# Altium footprint library ELECTROMECHANICAL_Test.PcbLib: 3 footprints
Each footprint in its own frame and in the unit in brackets; x right, y up, seen from the top. Pads: shape width x height; smd on the part's side, far side on the other; paste and mask are expansions set on the pad; w line width, h text height; cw(c..) or ccw(c..) is an arc to the next point about the centre after c.
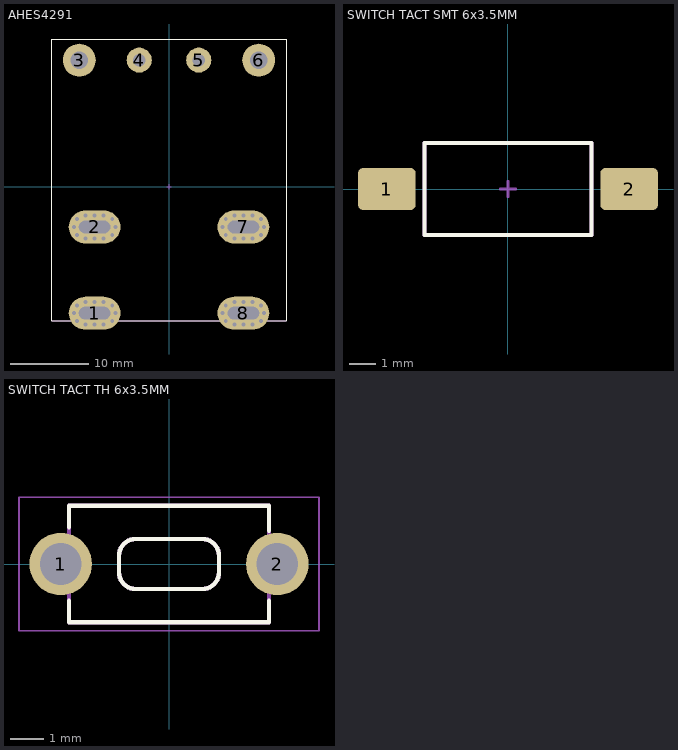
[diagram p0: the footprints below, top view; thin cyan lines are the x and y axes]

## AHES4291 [mm]
pads (8):
  oval 6.6x4.2 hole 1.6 slot 4 at 0 deg mask+0.102: 1(-9.5,-16.15) 7(9.5,-5.15) 8(9.5,-16.15)
  oval 6.6x4.2 hole 1.6 slot 4 at 0 deg: 2(-9.5,-5.15)
  round 4.2 hole 2.2 mask+0.102: 3(-11.45,16.15) 6(11.45,16.15)
  round 3.2 hole 1.6 mask+0.102: 4(-3.8,16.15) 5(3.8,16.15)
via 8.35,-17.6 diameter 1 hole 0.5
via 10.65,-17.6 diameter 1 hole 0.5
via 6.85,-16.15 diameter 1 hole 0.5
via 8.35,-14.7 diameter 1 hole 0.5
via 9.5,-14.7 diameter 1 hole 0.5
via 10.65,-14.7 diameter 1 hole 0.5
via 12.15,-16.15 diameter 1 hole 0.5
via 9.5,-17.6 diameter 1 hole 0.5
via 11.75,-17.15 diameter 1 hole 0.5
via 7.25,-17.15 diameter 1 hole 0.5
via 11.75,-15.15 diameter 1 hole 0.5
via 7.25,-15.15 diameter 1 hole 0.5
via -10.65,-17.6 diameter 1 hole 0.5
via -8.35,-17.6 diameter 1 hole 0.5
via -12.15,-16.15 diameter 1 hole 0.5
via -10.65,-14.7 diameter 1 hole 0.5
via -9.5,-14.7 diameter 1 hole 0.5
via -8.35,-14.7 diameter 1 hole 0.5
via -6.85,-16.15 diameter 1 hole 0.5
via -9.5,-17.6 diameter 1 hole 0.5
via -7.25,-17.15 diameter 1 hole 0.5
via -11.75,-17.15 diameter 1 hole 0.5
via -7.25,-15.15 diameter 1 hole 0.5
via -11.75,-15.15 diameter 1 hole 0.5
via 8.35,-6.6 diameter 1 hole 0.5
via 10.65,-6.6 diameter 1 hole 0.5
via 6.85,-5.15 diameter 1 hole 0.5
via 8.35,-3.7 diameter 1 hole 0.5
via 9.5,-3.7 diameter 1 hole 0.5
via 10.65,-3.7 diameter 1 hole 0.5
via 12.15,-5.15 diameter 1 hole 0.5
via 9.5,-6.6 diameter 1 hole 0.5
via 11.75,-6.15 diameter 1 hole 0.5
via 7.25,-6.15 diameter 1 hole 0.5
via 11.75,-4.15 diameter 1 hole 0.5
via 7.25,-4.15 diameter 1 hole 0.5
via -10.65,-6.6 diameter 1 hole 0.5
via -8.35,-6.6 diameter 1 hole 0.5
via -12.15,-5.15 diameter 1 hole 0.5
via -10.65,-3.7 diameter 1 hole 0.5
via -9.5,-3.7 diameter 1 hole 0.5
via -8.35,-3.7 diameter 1 hole 0.5
via -6.85,-5.15 diameter 1 hole 0.5
via -9.5,-6.6 diameter 1 hole 0.5
via -7.25,-6.15 diameter 1 hole 0.5
via -11.75,-6.15 diameter 1 hole 0.5
via -7.25,-4.15 diameter 1 hole 0.5
via -11.75,-4.15 diameter 1 hole 0.5
Top Overlay:
  lines w0.15: -12.5,-17.15 -15,-17.15 -15,18.85 15,18.85 15,-17.15 12.5,-17.15 ; -6.5,-17.15 6.5,-17.15
Mechanical 15:
  lines w0.1: -0.3,0 0.3,0 ; 0,-0.3 0,0.3
Mechanical 29:
  lines w0.15: -12.5,-17.15 -15,-17.15 -15,18.85 15,18.85 15,-17.15 12.5,-17.15 ; -6.5,-17.15 6.5,-17.15
  text "'.Designator'" at -4.914,-0.46 h2.03
3D body "ahes4191.step": height 40, standoff -4, extent -15,-17.15 15,18.85

## SWITCH TACT SMT 6x3.5MM [mm]
pads (2):
  rrect25% 2.19x1.6 smd: 1(-4.595,0) 2(4.595,0)
Top Overlay:
  lines w0.15: -3.175,-1.75 3.175,-1.75 3.175,1.75 -3.175,1.75 -3.175,-1.75
Mechanical 15:
  lines w0.1: -0.3,0 0.3,0 ; 0,-0.3 0,0.3
Mechanical 29:
  lines w0.15: -3.175,-1.75 -3.175,1.75 3.175,1.75 3.175,-1.75 -3.175,-1.75
  text "'.Designator'" at -2.457,-0.23 h1.02
3D body "FSMSMTR.STEP": height 4.42, standoff 0, extent -4.985,-1.75 4.984,1.75

## SWITCH TACT TH 6x3.5MM [mm]
pads (2):
  round 1.875 hole 1.25: 1(-3.25,0) 2(3.25,0)
Top Overlay:
  lines w0.127: -3,-1.1 -3,-1.75 3,-1.75 3,-1.1 ; -3,1.1 -3,1.75 3,1.75 3,1 ; -1.5,-0.25 ccw(c-1,-0.25) -1,-0.75 1,-0.75 ccw(c1,-0.25) 1.5,-0.25 1.5,0.25 ccw(c1,0.25) 1,0.75 -1,0.75 ccw(c-1,0.25) -1.5,0.25 -1.5,-0.25
Mechanical 13:
  lines w0.127: -3,-1.75 -3,1.75 3,1.75 3,-1.75 -3,-1.75 ; -1.5,-0.25 ccw(c-1,-0.25) -1,-0.75 1,-0.75 ccw(c1,-0.25) 1.5,-0.25 1.5,0.25 ccw(c1,0.25) 1,0.75 -1,0.75 ccw(c-1,0.25) -1.5,0.25 -1.5,-0.25
Mechanical 15:
  lines w0.05: -4.5,-2 4.5,-2 4.5,2 -4.5,2 -4.5,-2
Mechanical 29:
  lines w0.127: -3,-1.1 -3,-1.75 3,-1.75 3,-1.1 ; -3,1.1 -3,1.75 3,1.75 3,1
  text "'.Designator'" at -2.457,-0.23 h1.02
3D body "DTS-31.STEP": height 4.31, standoff -3.49, extent -3.878,-1.75 3.878,1.75